# Altium schematic symbol library PSK-15D.SchLib: 1 symbol
Pins are listed as number, name and electrical type; pins without a type are passive.

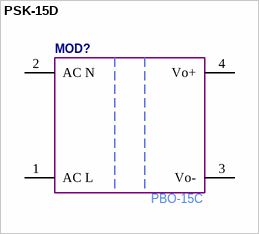
[diagram p0: symbol PSK-15D]

## PSK-15D
designator MOD?  Manufacturer Part Number: PBO-15C  (hidden comment: *)
pins: 1 AC L, 2 AC N, 3 Vo-, 4 Vo+